# Altium schematic symbol library KF128-3p.SchLib: 1 symbol
Pins are listed as number, name and electrical type; pins without a type are passive.

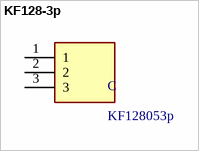
[diagram p0: symbol KF128-3p]

## KF128-3p
designator C, comment KF128053p
footprint KF128-3p
pins: 1, 2, 3